# Altium footprint library dinazu.PcbLib: 22 footprints (part 2 of 2)
Each footprint in its own frame and in the unit in brackets; x right, y up, seen from the top. Pads: shape width x height; smd on the part's side, far side on the other; paste and mask are expansions set on the pad; w line width, h text height; cw(c..) or ccw(c..) is an arc to the next point about the centre after c.
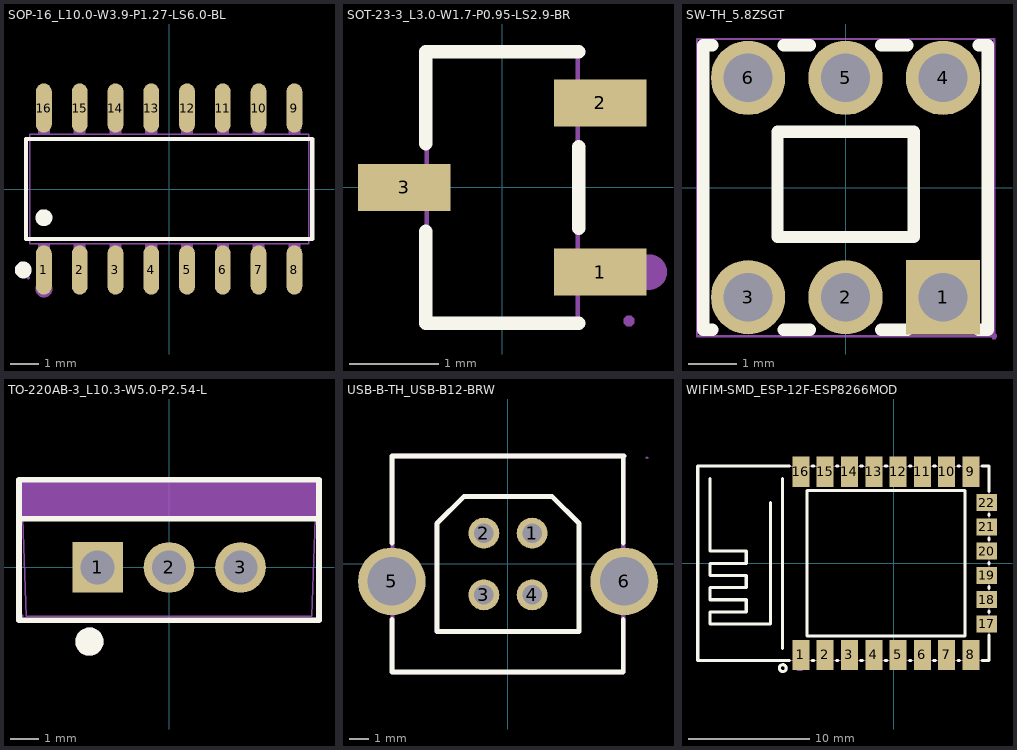
[diagram p1: the footprints below, top view; thin cyan lines are the x and y axes]

## SOP-16_L10.0-W3.9-P1.27-LS6.0-BL [mm]
pads (16):
  oval 0.56x1.745 smd: 1(-4.445,-2.872) 2(-3.175,-2.872) 3(-1.905,-2.872) 4(-0.635,-2.872) 5(0.635,-2.872) 6(1.905,-2.872) 7(3.175,-2.872) 8(4.445,-2.872) 9(4.445,2.872) 10(3.175,2.872) 11(1.905,2.872) 12(0.635,2.872) 13(-0.635,2.872) 14(-1.905,2.872) 15(-3.175,2.872) 16(-4.445,2.872)
Top Overlay:
  circle w0.3: c-5.177,-2.872 r0.15
  circle w0.3: c-4.445,-1.019 r0.15
  lines w0.152: -5.076,-1.771 5.076,-1.771 5.076,1.771 -5.076,1.771 -5.076,-1.771
Mechanical 6:
  circle w0.3: c-4.445,-3.55 r0.15
Mechanical 15:
  drawing of 37 lines, arcs and shapes, not listed

## SOT-23-3_L3.0-W1.7-P0.95-LS2.9-BR [mm]
pads (3):
  rect 1.037x0.532 smd: 1(1.101,-0.95) 2(1.101,0.95) 3(-1.101,0)
Top Overlay:
  lines w0.152: -0.859,-0.495 -0.859,-1.526 0.859,-1.526 ; -0.859,0.495 -0.859,1.526 0.859,1.526 ; 0.859,-0.455 0.859,0.455
Mechanical 6:
  circle w0.2: c1.65,-0.95 r0.1
Mechanical 15:
  region: 1,-1.137 1,-0.762 1.425,-0.762 1.425,-1.137
  region: 0.815,-1.137 0.815,-0.762 1.01,-0.762 1.01,-1.137
  region: 1,0.762 1,1.137 1.425,1.137 1.425,0.762
  region: 0.815,0.762 0.815,1.137 1.01,1.137 1.01,0.762
  region: -1.425,-0.188 -1.425,0.188 -1,0.188 -1,-0.188
  region: -1.01,-0.188 -1.01,0.188 -0.815,0.188 -0.815,-0.188
  region: 1.485,-1.5 1.485,-1.475 1.45,-1.44 1.4,-1.44 1.365,-1.475 1.365,-1.5 1.365,-1.525 1.4,-1.56 1.45,-1.56 1.485,-1.525 1.485,-1.5
  lines w0.051: -0.85,-1.5 -0.85,1.5 0.85,1.5 0.85,-1.5 -0.85,-1.5

## SW-TH_5.8ZSGT [mil]
pads (6):
  rect 60x60 hole 39.37: 1(78.74,-88.59)
  round 60 hole 39.37: 2(0,-88.59) 3(-78.74,-88.59) 4(78.74,88.59) 5(0,88.59) 6(-78.74,88.59)
Top Overlay:
  lines w10: -107.53,-115 -115,-115 -115,115 -107.53,115 ; -49.95,-115 -28.79,-115 ; -49.95,115 -28.79,115 ; 28.79,-115 49.95,-115 ; 28.79,115 49.95,115 ; 107.53,-115 115,-115 115,115 107.53,115 ; -55,-40 -55,45 55,45 55,-40 -55,-40
Mechanical 15:
  region: 94.48,-88.58 94.48,-85.45 92.09,-79.67 87.66,-75.24 81.87,-72.84 75.61,-72.84 69.82,-75.24 65.39,-79.67 63,-85.45 63,-88.58 63,-91.72 65.39,-97.5 69.82,-101.93 75.61,-104.33 81.87,-104.33 87.66,-101.93 92.09,-97.5 94.48,-91.72 94.48,-88.58
  region: 15.74,-88.58 15.74,-85.45 13.35,-79.67 8.92,-75.24 3.13,-72.84 -3.13,-72.84 -8.92,-75.24 -13.35,-79.67 -15.74,-85.45 -15.74,-88.58 -15.74,-91.72 -13.35,-97.5 -8.92,-101.93 -3.13,-104.33 3.13,-104.33 8.92,-101.93 13.35,-97.5 15.74,-91.72 15.74,-88.58
  region: -63,-88.58 -63,-85.45 -65.39,-79.67 -69.82,-75.24 -75.61,-72.84 -81.87,-72.84 -87.66,-75.24 -92.09,-79.67 -94.48,-85.45 -94.48,-88.58 -94.48,-91.72 -92.09,-97.5 -87.66,-101.93 -81.87,-104.33 -75.61,-104.33 -69.82,-101.93 -65.39,-97.5 -63,-91.72 -63,-88.58
  region: -63,88.59 -63,91.72 -65.39,97.5 -69.82,101.93 -75.61,104.33 -81.87,104.33 -87.66,101.93 -92.09,97.5 -94.48,91.72 -94.48,88.59 -94.48,85.45 -92.09,79.67 -87.66,75.24 -81.87,72.84 -75.61,72.84 -69.82,75.24 -65.39,79.67 -63,85.45 -63,88.59
  region: 15.74,88.59 15.74,91.72 13.35,97.5 8.92,101.93 3.13,104.33 -3.13,104.33 -8.92,101.93 -13.35,97.5 -15.74,91.72 -15.74,88.59 -15.74,85.45 -13.35,79.67 -8.92,75.24 -3.13,72.84 3.13,72.84 8.92,75.24 13.35,79.67 15.74,85.45 15.74,88.59
  region: 94.48,88.59 94.48,91.72 92.09,97.5 87.66,101.93 81.87,104.33 75.61,104.33 69.82,101.93 65.39,97.5 63,91.72 63,88.59 63,85.45 65.39,79.67 69.82,75.24 75.61,72.84 81.87,72.84 87.66,75.24 92.09,79.67 94.48,85.45 94.48,88.59
  region: 122.36,-120 122.36,-119.03 120.98,-117.64 119.02,-117.64 117.64,-119.03 117.64,-120 117.64,-120.98 119.02,-122.36 120.98,-122.36 122.36,-120.98 122.36,-120
  lines w2: -120,-120 -120,120 120,120 120,-120 -120,-120

## TO-220AB-3_L10.3-W5.0-P2.54-L [mm]
pads (3):
  rect 1.8x1.8 hole 1.2: 1(-2.54,0)
  round 1.8 hole 1.2: 2(0,0) 3(2.54,0)
Top Overlay:
  circle w0.5: c-2.83,-2.64 r0.25
  lines w0.201: -5.334,3.12 -5.334,-1.88 5.33,-1.88 5.33,3.12 -5.33,3.12 ; -5.33,1.724 5.33,1.724
Mechanical 6:
  circle w0.5: c-2.83,-2.64 r0.25
  region: -5.25,1.73 -5.25,3.13 5.25,3.13 5.25,1.73
Mechanical 15:
  region: 2.19,-0.25 2.19,0.25 2.89,0.25 2.89,-0.25
  region: -0.35,-0.25 -0.35,0.25 0.35,0.25 0.35,-0.25
  region: -2.89,0.25 -2.19,0.25 -2.19,-0.25 -2.89,-0.25
  region: -5.19,-1.73 -5.19,-1.705 -5.225,-1.67 -5.275,-1.67 -5.31,-1.705 -5.31,-1.73 -5.31,-1.755 -5.275,-1.79 -5.225,-1.79 -5.19,-1.755 -5.19,-1.73
  lines w0.051: -5.25,1.73 -5.25,3.13 5.25,3.13 5.25,1.73 5.2,1.73 5.2,1.74 5.08,-1.73 -5.08,-1.73 -5.2,1.73 -5.25,1.73

## USB-B-TH_USB-B12-BRW [mm]
pads (6):
  round 1.6 hole 1: 1(1.25,1.6) 2(-1.25,1.6) 3(-1.25,-1.6) 4(1.25,-1.6)
  round 3.5 hole 2.5: 5(-6.02,-0.9) 6(6.02,-0.9)
Top Overlay:
  lines w0.254: -6,-2.881 -6,-5.588 5.969,-5.588 5.969,-2.881 ; -6,1.081 -6,5.588 6,5.588 ; 5.969,1.08 5.969,5.588 ; -3.683,-3.493 3.683,-3.493 3.683,2.095 2.286,3.492 -1.905,3.492 -2.286,3.492 -3.683,2.095 -3.683,-3.493
Mechanical 6:
  region: 5.87,5.5 5.87,-5.45 5.82,-5.5 -5.83,-5.5 -5.88,-5.45 -5.88,5.45 -5.83,5.5 -5.83,5.7 -5.98,5.7 -6.08,5.6 -6.08,-5.6 -5.98,-5.7 5.97,-5.7 6.07,-5.6 6.07,5.6 5.97,5.7 -5.78,5.7 -5.78,5.5
  region: 2.1,3.55 -2.35,3.55 -3.8,2.1 -3.55,2.1 -2.25,3.4 2.25,3.4 3.6,2.05 3.8,2.05 2.3,3.55 2.25,3.55
  region: -3.8,2.1 -3.8,-3.5 -3.7,-3.6 -3.6,-3.6 -3.6,2.05 -3.55,2.1
  region: 3.775,2.1 3.775,-3.5 3.675,-3.6 3.575,-3.6 3.575,2.05 3.525,2.1
  region: 3.55,-3.4 -3.55,-3.4 -3.55,-3.6 3.5,-3.6 3.55,-3.6
Mechanical 15:
  region: 7.26,5.5 7.26,5.525 7.225,5.56 7.176,5.56 7.14,5.525 7.14,5.5 7.14,5.475 7.176,5.44 7.225,5.44 7.26,5.475 7.26,5.5
  region: 0.95,1.725 1.55,1.725 1.55,1.475 0.95,1.475
  region: 0.95,-1.475 1.55,-1.475 1.55,-1.725 0.95,-1.725
  region: -1.55,-1.475 -0.95,-1.475 -0.95,-1.725 -1.55,-1.725
  region: -1.55,1.725 -0.95,1.725 -0.95,1.475 -1.55,1.475
  region: 5.87,-1.65 5.87,-0.15 6.17,-0.15 6.17,-1.65
  region: -6.17,-1.65 -6.17,-0.15 -5.87,-0.15 -5.87,-1.65
  region: 7.2,-0.15 7.2,-1.65 5.87,-1.65 5.87,-0.15
  region: -7.201,-1.65 -7.201,-0.15 -5.87,-0.15 -5.87,-1.65
  lines w0.051: -6,-5.5 -6,5.5 6,5.5 6,-5.5 -6,-5.5

## WIFIM-SMD_ESP-12F-ESP8266MOD [mm]
pads (22):
  rect 1.4x2.5 smd: 1(-7.651,-7.551) 2(-5.651,-7.551) 3(-3.651,-7.551) 4(-1.651,-7.551) 5(0.349,-7.551) 6(2.349,-7.551) 7(4.349,-7.551) 8(6.349,-7.551) 9(6.349,7.549) 10(4.349,7.55) 11(2.349,7.551) 12(0.349,7.551) 13(-1.651,7.55) 14(-3.651,7.551) 15(-5.651,7.55) 16(-7.651,7.551)
  rect 1.7x1.4 smd: 17(7.651,-5) 18(7.649,-3.002) 19(7.65,-1.003) 20(7.65,0.997) 21(7.65,2.997) 22(7.65,4.997)
Top Overlay:
  circle w0.254: c-9.144,-8.636 r0.284
  lines w0.254: -15.151,6.998 -15.151,0.998 -12.151,0.998 -12.151,-0.002 -15.151,-0.002 -15.151,-1.002 -12.151,-1.002 -12.151,-2.002 -15.151,-2.002 -15.151,-3.002 -12.151,-3.002 -12.151,-4.002 -15.151,-4.002 -15.151,-5.002 -10.151,-5.002 -10.151,4.998 ; -9.151,-7.002 -9.151,6.998 ; -8.582,-8.001 -16.151,-8.001 -16.151,7.998 -8.582,7.998 ; -6.719,-8.001 -6.582,-8.001 ; -6.719,7.998 -6.582,7.998 ; -4.719,-8.001 -4.582,-8.001 ; -4.719,7.998 -4.582,7.998 ; -2.719,-8.001 -2.582,-8.001 ; -2.719,7.998 -2.582,7.998 ; -0.719,-8.001 -0.582,-8.001 ; -0.719,7.998 -0.582,7.998 ; 1.281,-8.001 1.418,-8.001 ; 1.281,7.998 1.418,7.998 ; 3.281,-8.001 3.418,-8.001 ; 3.281,7.998 3.418,7.998 ; 5.281,-8.001 5.418,-8.001 ; 5.281,7.998 5.418,7.998 ; 7.281,-8.001 7.847,-8.001 7.847,-5.931 ; 7.281,7.998 7.847,7.998 7.847,5.928 ; 7.847,-4.069 7.847,-3.933 ; 7.847,-2.071 7.847,-1.934 ; 7.847,-0.072 7.847,0.066 ; 7.847,1.929 7.847,2.066 ; 7.847,3.928 7.847,4.066 ; -7.151,-6.002 5.849,-6.002 5.849,5.998 -7.151,5.998 -7.151,-6.002
Mechanical 6:
  circle w0.5: c-7.747,-8.382 r0.25
Mechanical 15:
  region: -16.091,-8.003 -16.091,-7.978 -16.126,-7.943 -16.176,-7.943 -16.211,-7.978 -16.211,-8.003 -16.211,-8.028 -16.176,-8.063 -16.126,-8.063 -16.091,-8.028 -16.091,-8.003
  region: -7.151,-6.35 -7.151,-8 -8.151,-8 -8.151,-6.35
  region: -5.151,-6.35 -5.151,-8 -6.151,-8 -6.151,-6.35
  region: -3.151,-6.35 -3.151,-8 -4.151,-8 -4.151,-6.35
  region: -1.151,-6.35 -1.151,-8 -2.151,-8 -2.151,-6.35
  region: 0.849,-6.35 0.849,-8 -0.151,-8 -0.151,-6.35
  region: 2.849,-6.35 2.849,-8 1.849,-8 1.849,-6.35
  region: 4.849,-6.35 4.849,-8 3.849,-8 3.849,-6.35
  region: 6.849,-6.35 6.849,-8 5.849,-8 5.849,-6.35
  region: 5.849,6.35 5.849,8 6.849,8 6.849,6.35
  region: 3.849,6.35 3.849,8 4.849,8 4.849,6.35
  region: 1.849,6.35 1.849,8 2.849,8 2.849,6.35
  region: -0.151,6.35 -0.151,8 0.849,8 0.849,6.35
  region: -2.151,6.35 -2.151,8 -1.151,8 -1.151,6.35
  region: -4.151,6.35 -4.151,8 -3.151,8 -3.151,6.35
  region: -6.151,6.35 -6.151,8 -5.151,8 -5.151,6.35
  region: -8.151,6.35 -8.151,8 -7.151,8 -7.151,6.35
  region: 7.849,-4.5 7.849,-5.5 6.949,-5.5 6.949,-4.5
  region: 7.849,-2.502 7.849,-3.502 6.949,-3.502 6.949,-2.502
  region: 7.849,-0.503 7.849,-1.503 6.949,-1.503 6.949,-0.503
  region: 7.849,1.498 7.849,0.498 6.949,0.498 6.949,1.498
  region: 7.849,3.497 7.849,2.497 6.949,2.497 6.949,3.497
  region: 7.849,5.497 7.849,4.497 6.949,4.497 6.949,5.497
  lines w0.051: -16.151,-8.003 7.849,-8.003 7.849,7.997 -16.151,7.997 -16.151,-8.003